# Altium footprint library SOP.PcbLib: 46 footprints (part 2 of 3)
Each footprint in its own frame and in the unit in brackets; x right, y up, seen from the top. Pads: shape width x height; smd on the part's side, far side on the other; paste and mask are expansions set on the pad; w line width, h text height; cw(c..) or ccw(c..) is an arc to the next point about the centre after c.
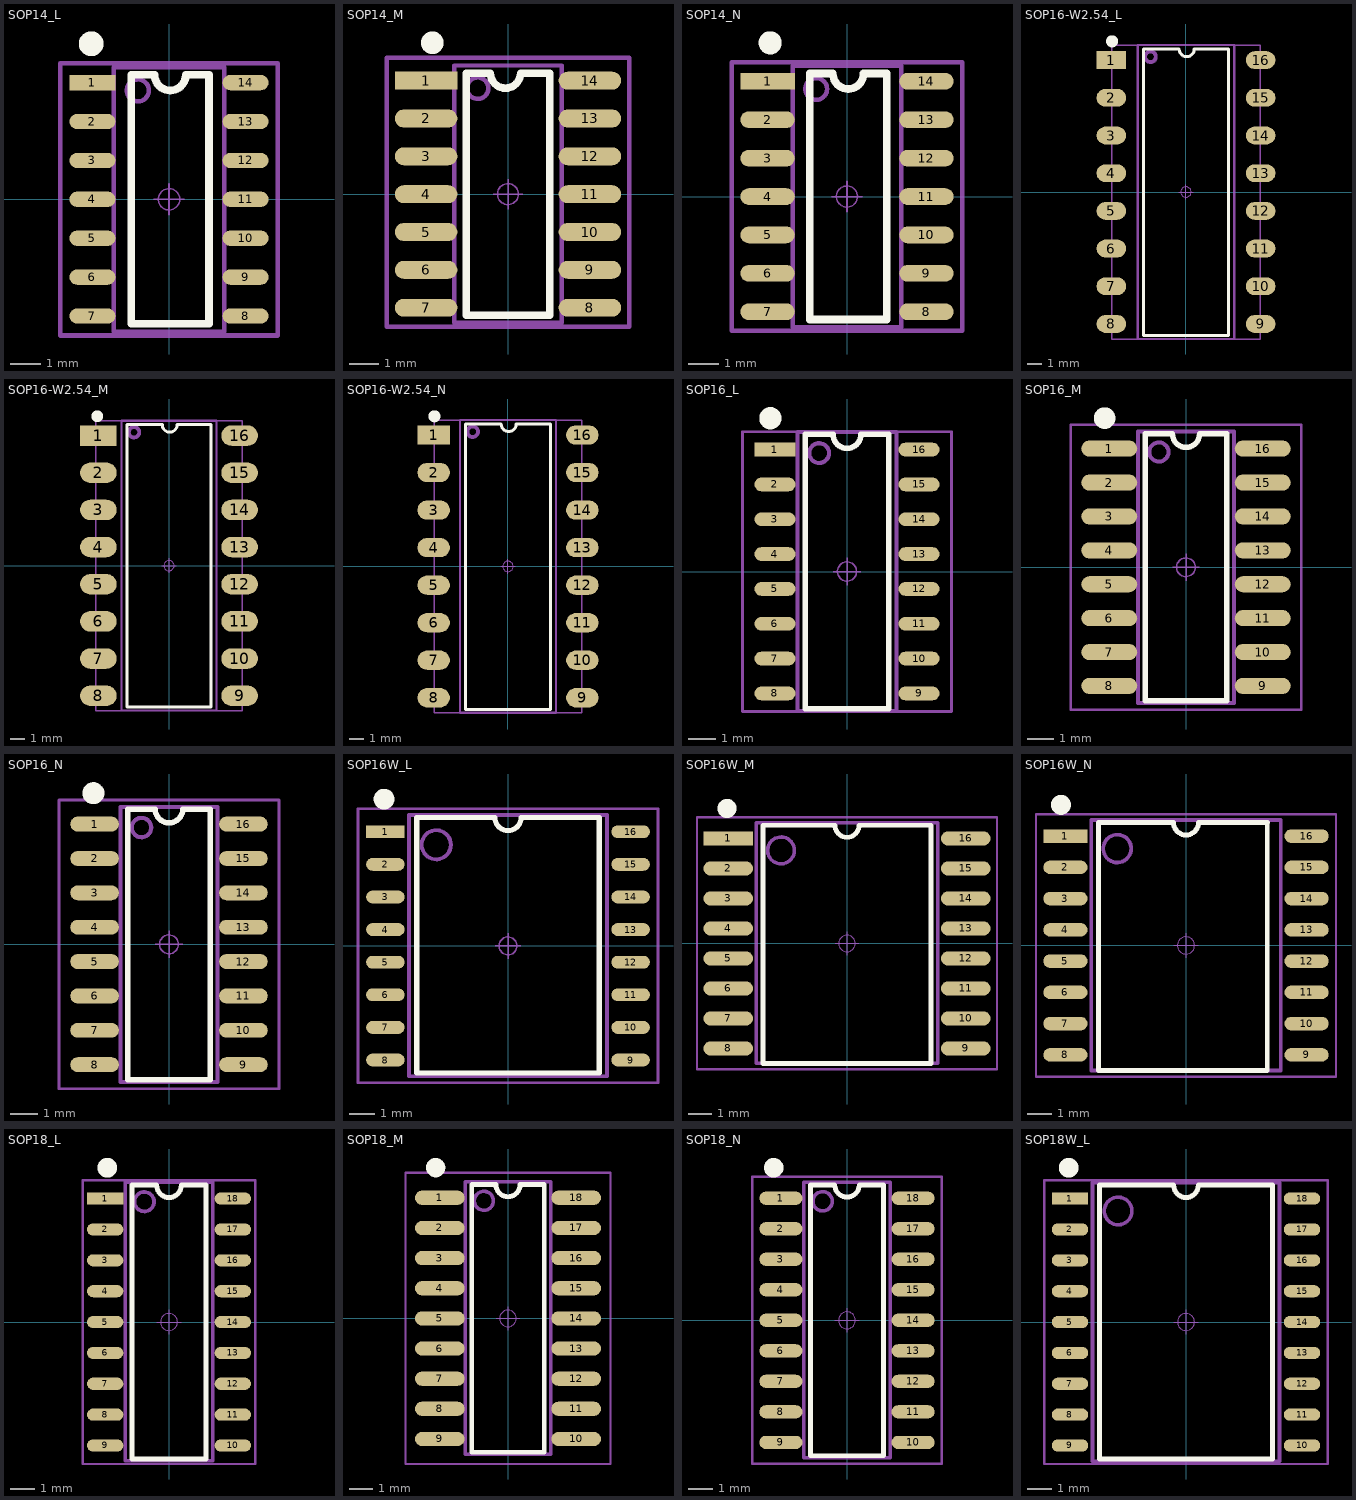
[diagram p1: the footprints below, top view; thin cyan lines are the x and y axes]

## SOP14_L [mm] "8.7*6.2*1.8mm（长宽高）"
pads (14):
  rect 1.5x0.5 smd: 1(-2.5,3.81)
  oval 1.5x0.5 smd: 2(-2.5,2.54) 3(-2.5,1.27) 4(-2.5,0) 5(-2.5,-1.27) 6(-2.5,-2.54) 7(-2.5,-3.81) 8(2.5,-3.81) 9(2.5,-2.54) 10(2.5,-1.27) 11(2.5,0) 12(2.5,1.27) 13(2.5,2.54) 14(2.5,3.81)
Top Overlay:
  circle w0.5: c-2.54,5.08 r0.155
  lines w0.254: -1.23,-4.064 -1.23,4.064 -0.468,4.064 ccw(c0.04,4.064) 0.04,3.556 ccw(c0.04,4.064) 0.548,4.064 1.31,4.064 1.31,-4.064 -1.23,-4.064
Mechanical 13:
  circle w0.15: c-1.016,3.556 r0.359
  lines w0.15: -1.8,-4.318 -1.8,4.318 1.8,4.318 1.8,-4.318 -1.8,-4.318
Mechanical 15:
  circle w0.05: c0,0 r0.35
  lines w0.05: -0.5,0 0.5,0 ; 0,-0.5 0,0.5
  lines w0.15: -3.556,-4.445 3.556,-4.445 3.556,4.445 -3.556,4.445 -3.556,-4.445
3D body: height 1.9, standoff 0, extent -3.003,-4.35 3.003,4.35

## SOP14_M [mm] "8.7*6.2*1.8mm（长宽高）"
pads (14):
  rect 2.1x0.6 smd: 1(-2.75,3.81)
  oval 2.1x0.6 smd: 2(-2.75,2.54) 3(-2.75,1.27) 4(-2.75,0) 5(-2.75,-1.27) 6(-2.75,-2.54) 7(-2.75,-3.81) 8(2.75,-3.81) 9(2.75,-2.54) 10(2.75,-1.27) 11(2.75,0) 12(2.75,1.27) 13(2.75,2.54) 14(2.75,3.81)
Top Overlay:
  circle w0.508: c-2.54,5.08 r0.127
  lines w0.254: -1.397,-4.064 -1.397,4.064 -0.593,4.064 ccw(c-0.085,4.064) -0.085,3.556 ccw(c-0.085,4.064) 0.423,4.064 1.397,4.064 1.397,-4.064 -1.397,-4.064
Mechanical 13:
  circle w0.15: c-1.016,3.556 r0.359
  lines w0.15: -1.8,-4.318 1.8,-4.318 1.8,4.318 -1.8,4.318 -1.8,-4.318
Mechanical 15:
  circle w0.05: c0,0 r0.35
  lines w0.05: -0.5,0 0.5,0 ; 0,-0.5 0,0.5
  lines w0.15: -4.064,-4.445 -4.064,4.572 4.064,4.572 4.064,-4.445 -4.064,-4.445
3D body: height 1.9, standoff 0, extent -3.003,-4.35 3.003,4.35

## SOP14_N [mm] "8.7*6.2*1.8mm（长宽高）"
pads (14):
  rect 1.8x0.55 smd: 1(-2.625,3.81)
  oval 1.8x0.55 smd: 2(-2.625,2.54) 3(-2.625,1.27) 4(-2.625,0) 5(-2.625,-1.27) 6(-2.625,-2.54) 7(-2.625,-3.81) 8(2.625,-3.81) 9(2.625,-2.54) 10(2.625,-1.27) 11(2.625,0) 12(2.625,1.27) 13(2.625,2.54) 14(2.625,3.81)
Top Overlay:
  circle w0.508: c-2.54,5.08 r0.127
  lines w0.254: -1.23,-4.064 -1.23,4.064 -0.468,4.064 ccw(c0.04,4.064) 0.04,3.556 ccw(c0.04,4.064) 0.548,4.064 1.31,4.064 1.31,-4.064 -1.23,-4.064
Mechanical 13:
  circle w0.15: c-1.016,3.556 r0.359
  lines w0.15: -1.8,-4.318 -1.8,4.318 1.8,4.318 1.8,-4.318 -1.8,-4.318
Mechanical 15:
  circle w0.05: c0,0 r0.35
  lines w0.05: -0.5,0 0.5,0 ; 0,-0.5 0,0.5
  lines w0.15: -3.81,-4.445 3.81,-4.445 3.81,4.445 -3.81,4.445 -3.81,-4.445
3D body: height 1.9, standoff 0, extent -3.003,-4.35 3.003,4.35

## SOP16-W2.54_L [mm] "6.5*19.82*3.5mm（长宽高）"
pads (16):
  rect 2x1.2 smd: 1(-5.029,8.89)
  oval 2x1.2 smd: 2(-5.029,6.35) 3(-5.029,3.81) 4(-5.029,1.27) 5(-5.029,-1.27) 6(-5.029,-3.81) 7(-5.029,-6.35) 8(-5.029,-8.89) 9(5.029,-8.89) 10(5.029,-6.35) 11(5.029,-3.81) 12(5.029,-1.27) 13(5.029,1.27) 14(5.029,3.81) 15(5.029,6.35) 16(5.029,8.89)
Top Overlay:
  circle w0.5: c-4.98,10.16 r0.155
  lines w0.2: -2.87,9.632 -2.87,-9.672 2.87,-9.672 2.87,9.632
  lines w0.203: -2.87,9.632 -0.46,9.632 ccw(c0.048,9.632) 0.048,9.124 ccw(c0.048,9.632) 0.556,9.632 2.87,9.632
Mechanical 13:
  circle w0.254: c-2.391,9.119 r0.359
  lines w0.15: -3.25,-9.906 3.25,-9.906 3.25,9.906 -3.25,9.906 -3.25,-9.906
Mechanical 15:
  circle w0.05: c0,0 r0.35
  lines w0.05: -0.5,0 0.5,0 ; 0,-0.5 0,0.5
  lines w0.1: -5.004,-9.906 5.004,-9.906 5.004,9.906 -5.004,9.906 -5.004,-9.906
3D body: height 3.82, standoff -0.03, extent -5,-9.91 5,9.91

## SOP16-W2.54_M [mm] "6.5*19.82*3.5mm（长宽高）"
pads (16):
  rect 2.5x1.4 smd: 1(-4.826,8.89)
  oval 2.5x1.4 smd: 2(-4.826,6.35) 3(-4.826,3.81) 4(-4.826,1.27) 5(-4.826,-1.27) 6(-4.826,-3.81) 7(-4.826,-6.35) 8(-4.826,-8.89) 9(4.826,-8.89) 10(4.826,-6.35) 11(4.826,-3.81) 12(4.826,-1.27) 13(4.826,1.27) 14(4.826,3.81) 15(4.826,6.35) 16(4.826,8.89)
Top Overlay:
  circle w0.5: c-4.904,10.211 r0.155
  lines w0.2: -2.87,-9.672 2.87,-9.672 2.87,9.632 ; -2.87,-9.652 -2.87,9.632
  lines w0.203: -2.87,9.632 -0.46,9.632 ccw(c0.048,9.632) 0.048,9.124 ccw(c0.048,9.632) 0.556,9.632 2.87,9.632
Mechanical 13:
  circle w0.254: c-2.391,9.119 r0.359
  lines w0.15: -3.25,-9.906 -3.25,9.906 3.25,9.906 3.25,-9.906 -3.25,-9.906
Mechanical 15:
  circle w0.05: c0,0 r0.35
  lines w0.05: -0.5,0 0.5,0 ; 0,-0.5 0,0.5
  lines w0.1: -5.004,-9.906 -5.004,9.906 5.004,9.906 5.004,-9.906 -5.004,-9.906
3D body: height 3.82, standoff -0.03, extent -5,-9.91 5,9.91

## SOP16-W2.54_N [mm] "6.5*19.82*3.5mm（长宽高）"
pads (16):
  rect 2.2x1.3 smd: 1(-5.029,8.89)
  oval 2.2x1.3 smd: 2(-5.029,6.35) 3(-5.029,3.81) 4(-5.029,1.27) 5(-5.029,-1.27) 6(-5.029,-3.81) 7(-5.029,-6.35) 8(-5.029,-8.89) 9(5.029,-8.89) 10(5.029,-6.35) 11(5.029,-3.81) 12(5.029,-1.27) 13(5.029,1.27) 14(5.029,3.81) 15(5.029,6.35) 16(5.029,8.89)
Top Overlay:
  circle w0.5: c-4.98,10.16 r0.155
  lines w0.2: -2.87,9.632 -2.87,-9.672 2.87,-9.672 2.87,9.632
  lines w0.203: -2.87,9.632 -0.46,9.632 ccw(c0.048,9.632) 0.048,9.124 ccw(c0.048,9.632) 0.556,9.632 2.87,9.632
Mechanical 13:
  circle w0.254: c-2.391,9.119 r0.359
  lines w0.15: -3.25,-9.906 -3.25,9.906 3.25,9.906 3.25,-9.906 -3.25,-9.906
Mechanical 15:
  circle w0.05: c0,0 r0.35
  lines w0.05: -0.5,0 0.5,0 ; 0,-0.5 0,0.5
  lines w0.1: -5.004,-9.906 -5.004,9.906 5.004,9.906 5.004,-9.906 -5.004,-9.906
3D body: height 3.82, standoff -0.03, extent -5,-9.91 5,9.91

## SOP16_L [mm] "10.3*6.2*1.8mm（长宽高）"
height 1.75
pads (16):
  rect 1.5x0.5 smd: 1(-2.625,4.445)
  oval 1.5x0.5 smd: 2(-2.625,3.175) 3(-2.625,1.905) 4(-2.625,0.635) 5(-2.625,-0.635) 6(-2.625,-1.905) 7(-2.625,-3.175) 8(-2.625,-4.445) 9(2.625,-4.445) 10(2.625,-3.175) 11(2.625,-1.905) 12(2.625,-0.635) 13(2.625,0.635) 14(2.625,1.905) 15(2.625,3.175) 16(2.625,4.445)
Top Overlay:
  circle w0.5: c-2.794,5.588 r0.155
  lines w0.2: -1.524,5 -1.524,-5 1.524,-5 1.524,5
  lines w0.203: -1.524,5 -0.508,5 ccw(c0,5) 0,4.492 ccw(c0,5) 0.508,5 1.524,5
Mechanical 13:
  circle w0.15: c-1.016,4.318 r0.359
  lines w0.15: -1.8,-5.08 -1.8,5.08 1.8,5.08 1.8,-5.08 -1.8,-5.08
Mechanical 15:
  circle w0.05: c0,0 r0.35
  lines w0.05: -0.5,0 0.5,0 ; 0,-0.5 0,0.5
  lines w0.1: -3.81,-5.1 3.81,-5.1 3.81,5.1 -3.81,5.1 -3.81,-5.1
3D body: height 1.9, standoff 0, extent -3.003,-5 3.003,5

## SOP16_M [mm] "10.3*6.2*1.8mm（长宽高）"
height 1.75
pads (16):
  oval 2.1x0.6 smd: 1(-2.875,4.445) 2(-2.875,3.175) 3(-2.875,1.905) 4(-2.875,0.635) 5(-2.875,-0.635) 6(-2.875,-1.905) 7(-2.875,-3.175) 8(-2.875,-4.445) 9(2.875,-4.445) 10(2.875,-3.175) 11(2.875,-1.905) 12(2.875,-0.635) 13(2.875,0.635) 14(2.875,1.905) 15(2.875,3.175) 16(2.875,4.445)
Top Overlay:
  circle w0.5: c-3.048,5.588 r0.155
  lines w0.2: -1.524,5 -1.524,-5 1.524,-5 1.524,5
  lines w0.203: -1.524,5 -0.508,5 ccw(c0,5) 0,4.492 ccw(c0,5) 0.508,5 1.524,5
Mechanical 13:
  circle w0.15: c-1.016,4.318 r0.359
  lines w0.15: -1.8,-5.08 -1.8,5.08 1.8,5.08 1.8,-5.08 -1.8,-5.08
Mechanical 15:
  circle w0.05: c0,0 r0.35
  lines w0.05: -0.5,0 0.5,0 ; 0,-0.5 0,0.5
  lines w0.1: -4.318,-5.334 4.318,-5.334 4.318,5.334 -4.318,5.334 -4.318,-5.334
3D body: height 1.9, standoff 0, extent -3.003,-5 3.003,5

## SOP16_N [mm] "10.3*6.2*1.8mm（长宽高）"
height 1.75
pads (16):
  oval 1.8x0.55 smd: 1(-2.75,4.445) 2(-2.75,3.175) 3(-2.75,1.905) 4(-2.75,0.635) 5(-2.75,-0.635) 6(-2.75,-1.905) 7(-2.75,-3.175) 8(-2.75,-4.445) 9(2.75,-4.445) 10(2.75,-3.175) 11(2.75,-1.905) 12(2.75,-0.635) 13(2.75,0.635) 14(2.75,1.905) 15(2.75,3.175) 16(2.75,4.445)
Top Overlay:
  circle w0.5: c-2.794,5.588 r0.155
  lines w0.2: -1.524,5 -1.524,-5 1.524,-5 1.524,5
  lines w0.203: -1.524,5 -0.508,5 ccw(c0,5) 0,4.492 ccw(c0,5) 0.508,5 1.524,5
Mechanical 13:
  circle w0.15: c-1.016,4.318 r0.359
  lines w0.15: -1.8,-5.08 1.8,-5.08 1.8,5.08 -1.8,5.08 -1.8,-5.08
Mechanical 15:
  circle w0.05: c0,0 r0.35
  lines w0.05: -0.5,0 0.5,0 ; 0,-0.5 0,0.5
  lines w0.1: -4.064,-5.334 4.064,-5.334 4.064,5.334 -4.064,5.334 -4.064,-5.334
3D body: height 1.9, standoff 0, extent -3.003,-5 3.003,5

## SOP16W_L [mm] "10.3*10.3*2.6mm（长宽高）"
height 1.75
pads (16):
  rect 1.5x0.5 smd: 1(-4.775,4.445)
  oval 1.5x0.5 smd: 2(-4.775,3.175) 3(-4.775,1.905) 4(-4.775,0.635) 5(-4.775,-0.635) 6(-4.775,-1.905) 7(-4.775,-3.175) 8(-4.775,-4.445) 9(4.775,-4.445) 10(4.775,-3.175) 11(4.775,-1.905) 12(4.775,-0.635) 13(4.775,0.635) 14(4.775,1.905) 15(4.775,3.175) 16(4.775,4.445)
Top Overlay:
  circle w0.5: c-4.826,5.715 r0.155
  lines w0.2: -3.556,5 -3.556,-4.953 3.556,-4.953 3.556,5
  lines w0.203: -3.556,5 -0.508,5 ccw(c0,5) 0,4.492 ccw(c0,5) 0.508,5 3.556,5
Mechanical 13:
  circle w0.15: c-2.794,3.937 r0.568
  lines w0.15: -3.85,-5.08 3.85,-5.08 3.85,5.1 -3.85,5.1 -3.85,-5.08
Mechanical 15:
  circle w0.05: c0,0 r0.35
  lines w0.05: -0.5,0 0.5,0 ; 0,-0.5 0,0.5
  lines w0.1: -5.842,-5.334 -5.842,5.334 5.842,5.334 5.842,-5.334 -5.842,-5.334
3D body: height 2.7, standoff 0, extent -5.153,-5.15 5.153,5.15

## SOP16W_M [mm] "10.3*10.3*2.6mm（长宽高）"
height 1.75
pads (16):
  rect 2.1x0.6 smd: 1(-5.025,4.445)
  oval 2.1x0.6 smd: 2(-5.025,3.175) 3(-5.025,1.905) 4(-5.025,0.635) 5(-5.025,-0.635) 6(-5.025,-1.905) 7(-5.025,-3.175) 8(-5.025,-4.445) 9(5.025,-4.445) 10(5.025,-3.175) 11(5.025,-1.905) 12(5.025,-0.635) 13(5.025,0.635) 14(5.025,1.905) 15(5.025,3.175) 16(5.025,4.445)
Top Overlay:
  circle w0.5: c-5.08,5.715 r0.155
  lines w0.2: -3.556,5 -3.556,-5.08 3.556,-5.08 3.556,5
  lines w0.203: -3.556,5 -0.508,5 ccw(c0,5) 0,4.492 ccw(c0,5) 0.508,5 3.556,5
Mechanical 13:
  circle w0.15: c-2.794,3.937 r0.568
  lines w0.15: -3.85,-5.08 -3.85,5.1 3.85,5.1 3.85,-5.08 -3.85,-5.08
Mechanical 15:
  circle w0.05: c0,0 r0.35
  lines w0.05: -0.5,0 0.5,0 ; 0,-0.5 0,0.5
  lines w0.1: -6.35,-5.334 6.35,-5.334 6.35,5.334 -6.35,5.334 -6.35,-5.334
3D body: height 2.7, standoff 0, extent -5.153,-5.15 5.153,5.15

## SOP16W_N [mm] "10.3*10.3*2.6mm（长宽高）"
height 1.75
pads (16):
  rect 1.8x0.55 smd: 1(-4.9,4.445)
  oval 1.8x0.55 smd: 2(-4.9,3.175) 3(-4.9,1.905) 4(-4.9,0.635) 5(-4.9,-0.635) 6(-4.9,-1.905) 7(-4.9,-3.175) 8(-4.9,-4.445) 9(4.9,-4.445) 10(4.9,-3.175) 11(4.9,-1.905) 12(4.9,-0.635) 13(4.9,0.635) 14(4.9,1.905) 15(4.9,3.175) 16(4.9,4.445)
Top Overlay:
  circle w0.5: c-5.08,5.715 r0.155
  lines w0.2: -3.556,5 -3.556,-5.08 3.302,-5.08 3.302,5
  lines w0.203: -3.556,5 -0.508,5 ccw(c0,5) 0,4.492 ccw(c0,5) 0.508,5 3.302,5
Mechanical 13:
  circle w0.15: c-2.794,3.937 r0.568
  lines w0.15: -3.85,-5.08 -3.85,5.1 3.85,5.1 3.85,-5.08 -3.85,-5.08
Mechanical 15:
  circle w0.05: c0,0 r0.35
  lines w0.05: -0.5,0 0.5,0 ; 0,-0.5 0,0.5
  lines w0.1: -6.096,-5.334 -6.096,5.334 6.096,5.334 6.096,-5.334 -6.096,-5.334
3D body: height 2.7, standoff 0, extent -5.153,-5.15 5.153,5.15

## SOP18_L [mm] "11.5*6.2*1.8mm（长宽高）"
height 1.75
pads (18):
  rect 1.5x0.5 smd: 1(-2.625,5.08)
  oval 1.5x0.5 smd: 2(-2.625,3.81) 3(-2.625,2.54) 4(-2.625,1.27) 5(-2.625,0) 6(-2.625,-1.27) 7(-2.625,-2.54) 8(-2.625,-3.81) 9(-2.625,-5.08) 10(2.625,-5.08) 11(2.625,-3.81) 12(2.625,-2.54) 13(2.625,-1.27) 14(2.625,0) 15(2.625,1.27) 16(2.625,2.54) 17(2.625,3.81) 18(2.625,5.08)
Top Overlay:
  circle w0.5: c-2.54,6.35 r0.155
  lines w0.2: -1.524,5.635 -1.524,-5.635 1.524,-5.635 1.524,5.635
  lines w0.203: -1.524,5.635 -0.508,5.635 ccw(c0,5.635) 0,5.127 ccw(c0,5.635) 0.508,5.635 1.524,5.635
Mechanical 13:
  circle w0.15: c-1.016,4.953 r0.402
  lines w0.15: -1.8,-5.715 -1.8,5.75 1.8,5.75 1.8,-5.715 -1.8,-5.715
Mechanical 15:
  circle w0.05: c0,0 r0.35
  lines w0.05: -0.5,0 0.5,0 ; 0,-0.5 0,0.5
  lines w0.1: -3.556,-5.842 -3.556,5.842 3.556,5.842 3.556,-5.842 -3.556,-5.842
3D body: height 1.9, standoff 0, extent -3.003,-5.75 3.003,5.75

## SOP18_M [mm] "11.5*6.2*1.8mm（长宽高）"
height 1.75
pads (18):
  oval 2.1x0.6 smd: 1(-2.875,5.08) 2(-2.875,3.81) 3(-2.875,2.54) 4(-2.875,1.27) 5(-2.875,0) 6(-2.875,-1.27) 7(-2.875,-2.54) 8(-2.875,-3.81) 9(-2.875,-5.08) 10(2.875,-5.08) 11(2.875,-3.81) 12(2.875,-2.54) 13(2.875,-1.27) 14(2.875,0) 15(2.875,1.27) 16(2.875,2.54) 17(2.875,3.81) 18(2.875,5.08)
Top Overlay:
  circle w0.5: c-3.048,6.35 r0.155
  lines w0.2: -1.524,5.635 -1.524,-5.635 1.524,-5.635 1.524,5.635
  lines w0.203: -1.524,5.635 -0.508,5.635 ccw(c0,5.635) 0,5.127 ccw(c0,5.635) 0.508,5.635 1.524,5.635
Mechanical 13:
  circle w0.15: c-1.016,4.953 r0.402
  lines w0.15: -1.8,-5.715 1.8,-5.715 1.8,5.75 -1.8,5.75 -1.8,-5.715
Mechanical 15:
  circle w0.05: c0,0 r0.35
  lines w0.05: -0.5,0 0.5,0 ; 0,-0.5 0,0.5
  lines w0.1: -4.318,-6.135 4.318,-6.135 4.318,6.135 -4.318,6.135 -4.318,-6.135
3D body: height 1.9, standoff 0, extent -3.003,-5.75 3.003,5.75

## SOP18_N [mm] "11.5*6.2*1.8mm（长宽高）"
height 1.75
pads (18):
  oval 1.8x0.55 smd: 1(-2.75,5.08) 2(-2.75,3.81) 3(-2.75,2.54) 4(-2.75,1.27) 5(-2.75,0) 6(-2.75,-1.27) 7(-2.75,-2.54) 8(-2.75,-3.81) 9(-2.75,-5.08) 10(2.75,-5.08) 11(2.75,-3.81) 12(2.75,-2.54) 13(2.75,-1.27) 14(2.75,0) 15(2.75,1.27) 16(2.75,2.54) 17(2.75,3.81) 18(2.75,5.08)
Top Overlay:
  circle w0.5: c-3.048,6.35 r0.155
  lines w0.2: -1.524,5.635 -1.524,-5.635 1.524,-5.635 1.524,5.635
  lines w0.203: -1.524,5.635 -0.508,5.635 ccw(c0,5.635) 0,5.127 ccw(c0,5.635) 0.508,5.635 1.524,5.635
Mechanical 13:
  circle w0.15: c-1.016,4.953 r0.402
  lines w0.15: -1.8,-5.715 1.8,-5.715 1.8,5.75 -1.8,5.75 -1.8,-5.715
Mechanical 15:
  circle w0.05: c0,0 r0.35
  lines w0.05: -0.5,0 0.5,0 ; 0,-0.5 0,0.5
  lines w0.1: -3.937,-5.969 -3.937,5.969 3.937,5.969 3.937,-5.969 -3.937,-5.969
3D body: height 1.9, standoff 0, extent -3.003,-5.75 3.003,5.75

## SOP18W_L [mm] "11.5*10.3*2.6mm（长宽高）"
height 1.75
pads (18):
  rect 1.5x0.5 smd: 1(-4.775,5.08)
  oval 1.5x0.5 smd: 2(-4.775,3.81) 3(-4.775,2.54) 4(-4.775,1.27) 5(-4.775,0) 6(-4.775,-1.27) 7(-4.775,-2.54) 8(-4.775,-3.81) 9(-4.775,-5.08) 10(4.775,-5.08) 11(4.775,-3.81) 12(4.775,-2.54) 13(4.775,-1.27) 14(4.775,0) 15(4.775,1.27) 16(4.775,2.54) 17(4.775,3.81) 18(4.775,5.08)
Top Overlay:
  circle w0.5: c-4.826,6.35 r0.155
  lines w0.2: -3.556,5.635 -3.556,-5.635 3.556,-5.635 3.556,5.635
  lines w0.203: -3.556,5.635 -0.508,5.635 ccw(c0,5.635) 0,5.127 ccw(c0,5.635) 0.508,5.635 3.556,5.635
Mechanical 13:
  circle w0.15: c-2.794,4.572 r0.568
  lines w0.15: -3.85,-5.735 3.85,-5.735 3.85,5.735 -3.85,5.735 -3.85,-5.735
Mechanical 15:
  circle w0.05: c0,0 r0.35
  lines w0.05: -0.5,0 0.5,0 ; 0,-0.5 0,0.5
  lines w0.1: -5.842,-5.842 -5.842,5.842 5.842,5.842 5.842,-5.842 -5.842,-5.842
3D body: height 2.7, standoff 0, extent -5.153,-5.75 5.153,5.75